# EAGLE library part CON_2X5_2MM (library ChristiansCustom)
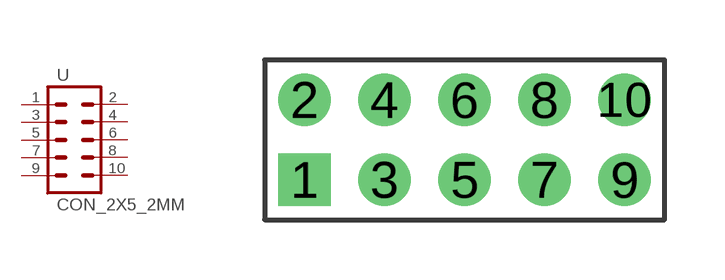
[diagram p1: symbol with the pads of CON_2X5_2MM; footprint CON_2X5_2MM]

Designator prefix -

## CON_2X5_2MM  [CON_2X5_2MM]
1  1  pas
2  2  pas
3  3  pas
4  4  pas
5  5  pas
6  6  pas
7  7  pas
8  8  pas
9  9  pas
10  10  pas

## Footprint CON_2X5_2MM (pad centres in mm)
drill 0.8 square: 1 -4,-1
drill 0.8: 2 -4,1; 3 -2,-1; 4 -2,1; 5 0,-1; 6 0,1; 7 2,-1; 8 2,1; 9 4,-1; 10 4,1